# Altium footprint library C_1210_3225.PcbLib: 1 footprints
Each footprint in its own frame and in the unit in brackets; x right, y up, seen from the top. Pads: shape width x height; smd on the part's side, far side on the other; paste and mask are expansions set on the pad; w line width, h text height; cw(c..) or ccw(c..) is an arc to the next point about the centre after c.
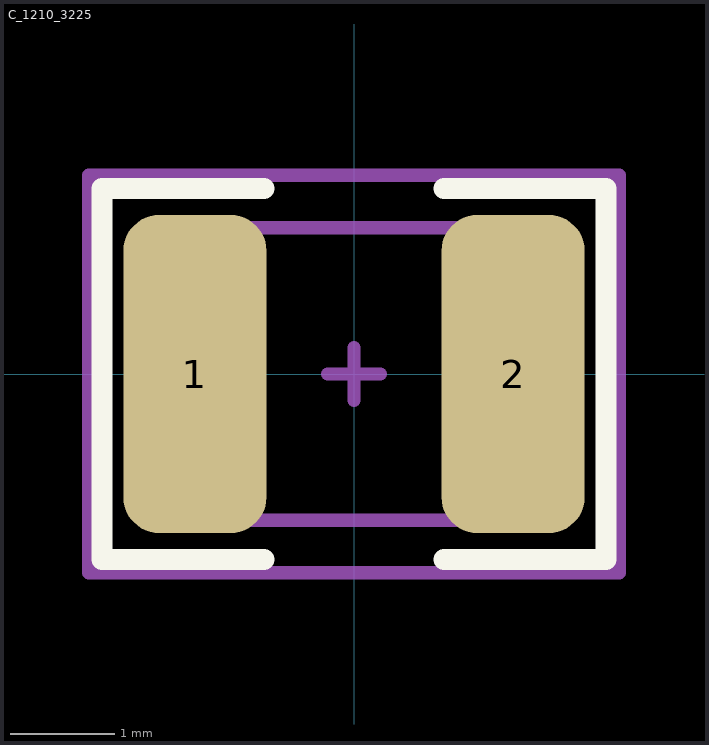
[diagram p0: the footprint, top view; thin cyan lines are the x and y axes]

## C_1210_3225 [mil]
pads (2):
  rrect50% 54x120 smd: 1(-60,0) 2(60,0)
Top Overlay:
  lines w7.87: -34,-70 -95,-70 -95,70 -34,70 ; 34,-70 95,-70 95,70 34,70
Top Assembly:
  lines w5: -71.85,-55.11 69.89,-55.11 69.89,55.12 -71.85,55.12 -71.85,-55.11
Top Courtyard:
  lines w5: -10,0 10,0 ; 0,-10 0,10 ; -100,-75 -100,75 100,75 100,-75 -100,-75
3D body "CAP_1210.STEP": height 86.1, standoff -0.51, extent -71.85,-55.11 69.89,55.12